# Altium footprint library TE_918-418K2023C40004.PcbLib: 1 footprints
Each footprint in its own frame and in the unit in brackets; x right, y up, seen from the top. Pads: shape width x height; smd on the part's side, far side on the other; paste and mask are expansions set on the pad; w line width, h text height; cw(c..) or ccw(c..) is an arc to the next point about the centre after c.
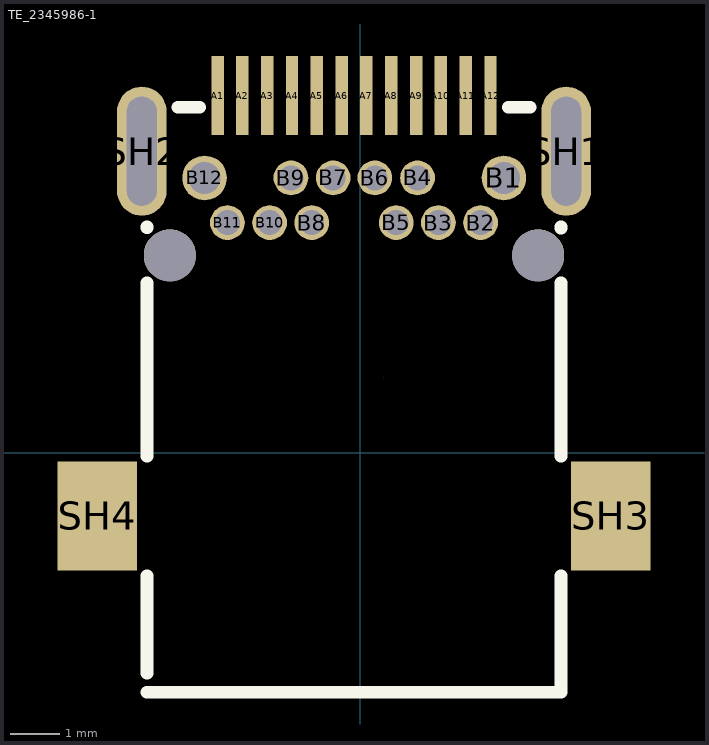
[diagram p0: the footprint, top view; thin cyan lines are the x and y axes]

## TE_2345986-1 [mm]
height 3.16
pads (30):
  rect 0.25x1.6 smd paste-100 mask+0.051: A1(-2.87,7.201) A2(-2.37,7.201) A3(-1.87,7.201) A4(-1.37,7.201) A5(-0.87,7.201) A6(-0.37,7.201) A7(0.13,7.201) A8(0.63,7.201) A9(1.129,7.201) A10(1.629,7.201) A11(2.129,7.201) A12(2.629,7.201)
  round 0.9 hole 0.65 paste-2539.97 mask+0.051: B1(2.899,5.541) B12(-3.131,5.541)
  round 0.7 hole 0.5 paste-2539.97 mask+0.051: B2(2.429,4.641) B3(1.579,4.641) B4(1.159,5.541) B5(0.729,4.641) B6(0.299,5.541) B7(-0.541,5.541) B8(-0.971,4.641) B9(-1.391,5.541) B10(-1.821,4.641) B11(-2.671,4.641)
  oval 1x2.6 hole 0.6 slot 2.2 at 90 deg paste-2539.97 mask+0.051: SH1(4.154,6.081) SH2(-4.396,6.081)
  rect 1.6x2.2 smd paste-100 mask+0.051: SH3(5.054,-1.269) SH4(-5.296,-1.269)
  round 1.05 hole 1.05 unplated paste-2539.97: ""(-3.831,3.981) ""(3.589,3.981)
Top Overlay:
  lines w0.254: -4.291,-4.819 4.049,-4.819 4.049,-2.473 ; -4.291,-4.44 -4.291,-2.472 ; -4.291,-0.066 -4.291,3.433 ; -4.291,4.534 -4.291,4.558 ; -3.67,6.966 -3.226,6.966 ; 2.985,6.966 3.428,6.966 ; 4.049,-0.065 4.049,3.428 ; 4.049,4.53 4.049,4.558
Top Paste:
  circle w0.28: c2.899,5.541 r0.14
  circle w0.28: c2.429,4.641 r0.14
  circle w0.28: c1.579,4.641 r0.14
  circle w0.28: c1.159,5.541 r0.14
  circle w0.28: c0.729,4.641 r0.14
  circle w0.28: c0.299,5.541 r0.14
  circle w0.28: c-0.541,5.541 r0.14
  circle w0.28: c-0.971,4.641 r0.14
  circle w0.28: c-1.391,5.541 r0.14
  circle w0.28: c-1.821,4.641 r0.14
  circle w0.28: c-2.671,4.641 r0.14
  circle w0.36: c-3.131,5.541 r0.18
  region: -4.496,-2.369 -6.096,-2.369 -6.096,-0.169 -4.496,-0.169
  region: 4.254,-0.169 5.854,-0.169 5.854,-2.369 4.254,-2.369
  region: -2.994,8.001 -2.744,8.001 -2.744,6.401 -2.994,6.401
  region: -2.495,8.001 -2.245,8.001 -2.245,6.401 -2.495,6.401
  region: -1.995,8.001 -1.745,8.001 -1.745,6.401 -1.995,6.401
  region: -1.495,8.001 -1.245,8.001 -1.245,6.401 -1.495,6.401
  region: -0.995,8.001 -0.745,8.001 -0.745,6.401 -0.995,6.401
  region: -0.495,8.001 -0.245,8.001 -0.245,6.401 -0.495,6.401
  region: 0.005,8.001 0.255,8.001 0.255,6.401 0.005,6.401
  region: 0.505,8.001 0.755,8.001 0.755,6.401 0.505,6.401
  region: 1.004,8.001 1.254,8.001 1.254,6.401 1.004,6.401
  region: 1.504,8.001 1.754,8.001 1.754,6.401 1.504,6.401
  region: 2.004,8.001 2.254,8.001 2.254,6.401 2.004,6.401
  region: 2.504,8.001 2.754,8.001 2.754,6.401 2.504,6.401
  region: -4.896,6.881 -4.896,6.981 -4.82,7.164 -4.679,7.305 -4.496,7.381 -4.297,7.381 -4.113,7.305 -3.972,7.164 -3.896,6.981 -3.896,6.881 -3.896,5.281 -3.896,5.182 -3.972,4.998 -4.113,4.857 -4.297,4.781 -4.496,4.781 -4.679,4.857 -4.82,4.998 -4.896,5.182 -4.896,5.281
  region: 3.654,6.881 3.654,6.981 3.73,7.164 3.871,7.305 4.055,7.381 4.254,7.381 4.437,7.305 4.578,7.164 4.654,6.981 4.654,6.881 4.654,5.281 4.654,5.182 4.578,4.998 4.437,4.857 4.254,4.781 4.055,4.781 3.871,4.857 3.73,4.998 3.654,5.182 3.654,5.281
Mechanical 15:
  lines w0.003: 0.479,1.528 0.48,1.527
3D body "2338792-1--3DModel-STEP-78480.STEP": height 3.34, standoff -1.01, extent -4.747,-5.036 4.493,4.064
3D body "2338792-1--3DModel-STEP-78480.STEP": height 3.34, standoff -1.01, extent -4.747,-1.353 4.493,7.747